# Altium integrated library Analog Devices Operational Amplifiers.IntLib: 2102 symbols (part 57 of 70)
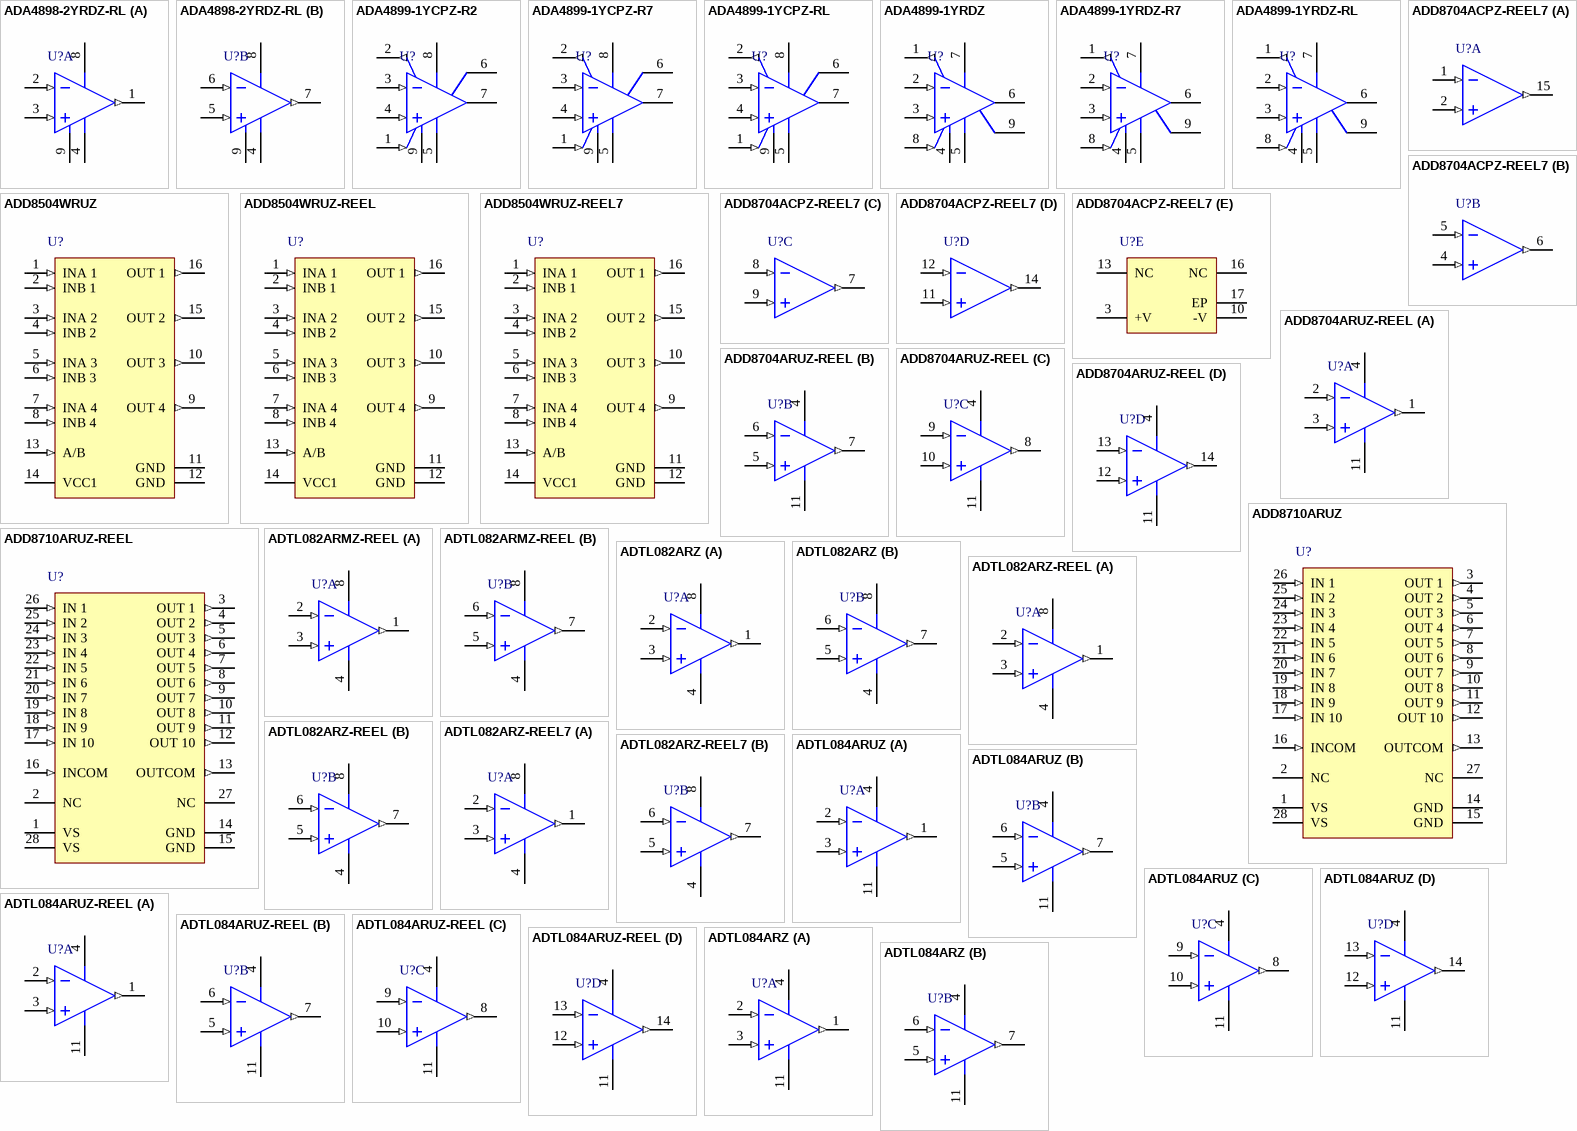
[diagram p170: symbols ADA4898-2YRDZ-RL to ADTL084ARZ]

## ADA4899-1YRDZ-R7
designator U?
Single Channel Ultra Low Noise Operational Amplifier, 600 MHz BW, 310 V/us SR, Industrial, 8-pin SOIC (RD-8-1), Reel; Generic Part Number: ADA4899-1; Manufacturer: Analog Devices; PartNumber: ADA4899-1YRDZ-R7; Amplifiers Per Package: 1; Input Bias Current: 100nA; Input Offset Voltage: 35uV; Iq/Amp: 16.2mA; Small Signal Bandwidth: 600MHz; V Span Max: 12V; V Span Min: 4.5V; DatasheetVersion: Rev. B; PackageVersion: 060506-A; PackageReference: RD-8-1; PackageDescription: 8-Pin Standard Small Outline Package, Body 4.9 x 3.9 mm, Pitch 1.27 mm; Supplier 1: Digi-Key; Supplier Part Number 1: ADA4899-1YRDZ-R7TR-ND; Supplier 2: Digi-Key; Supplier Part Number 2: ADA4899-1YRDZ-R7CT-ND; Supplier 3: Digi-Key; Supplier Part Number 3: ADA4899-1YRDZ-R7DKR-ND; Supplier 4: Newark; Supplier Part Number 4: 12M7624; Slew Rate: 310V/us; Mounting Technology: Surface Mount; Code_JEDEC: MS-012-AA; ComponentLink1Description: Manufacturer URL; ComponentLink1URL: http://www.analog.com/en/index.html; ComponentLink2Description: Datasheet; ComponentLink2URL: http://www.analog.com/static/imported-files/data_sheets/ADA4899-1.pdf; ComponentLink3Description: Package Specification; ComponentLink3URL: http://www.analog.com/static/imported-files/packages/PKG_PDF/SOIC_ED(RD)/RD_8_1.pdf; ComponentLink4Description: Reference Circuit; ComponentLink4URL: http://www.analog.com/en/all-operational-amplifiers-op-amps/operational-amplifiers-op-amps/ada4899-1/products/product.html#product-recommendations
footprint ADI-RD-8-1_N (SOIC, 8-Leads, Body 4.9x3.9mm, Pitch 1.27mm, Thermal Pad 2.29x2.29mm, IPC Medium Density)
footprint ADI-RD-8-1_L (SOIC, 8-Leads, Body 4.9x3.9mm, Pitch 1.27mm, Thermal Pad 2.29x2.29mm, IPC High Density)
footprint ADI-RD-8-1_M (SOIC, 8-Leads, Body 4.9x3.9mm, Pitch 1.27mm, Thermal Pad 2.29x2.29mm, IPC Low Density)
pins: 1 FEEDBACK (out), 2 -IN (in), 3 +IN (in), 4 -VS (power), 5 -VS (power), 6 VOUT (hiz), 7 +VS (power), 8 ~{DISABLE} (in), 9 EP

## ADA4899-1YRDZ-RL
designator U?
Single Channel Ultra Low Noise Operational Amplifier, 600 MHz BW, 310 V/us SR, Industrial, 8-pin SOIC (RD-8-1), Reel; Generic Part Number: ADA4899-1; Manufacturer: Analog Devices; PartNumber: ADA4899-1YRDZ-RL; Amplifiers Per Package: 1; Input Bias Current: 100nA; Input Offset Voltage: 35uV; Iq/Amp: 16.2mA; Small Signal Bandwidth: 600MHz; V Span Max: 12V; V Span Min: 4.5V; DatasheetVersion: Rev. B; PackageVersion: 060506-A; PackageReference: RD-8-1; PackageDescription: 8-Pin Standard Small Outline Package, Body 4.9 x 3.9 mm, Pitch 1.27 mm; Supplier 1: Digi-Key; Supplier Part Number 1: ADA4899-1YRDZ-RL-ND; Supplier 2: Newark; Supplier Part Number 2: 12M7623; Slew Rate: 310V/us; Mounting Technology: Surface Mount; Code_JEDEC: MS-012-AA; ComponentLink1Description: Manufacturer URL; ComponentLink1URL: http://www.analog.com/en/index.html; ComponentLink2Description: Datasheet; ComponentLink2URL: http://www.analog.com/static/imported-files/data_sheets/ADA4899-1.pdf; ComponentLink3Description: Package Specification; ComponentLink3URL: http://www.analog.com/static/imported-files/packages/PKG_PDF/SOIC_ED(RD)/RD_8_1.pdf; ComponentLink4Description: Reference Circuit; ComponentLink4URL: http://www.analog.com/en/all-operational-amplifiers-op-amps/operational-amplifiers-op-amps/ada4899-1/products/product.html#product-recommendations
footprint ADI-RD-8-1_N (SOIC, 8-Leads, Body 4.9x3.9mm, Pitch 1.27mm, Thermal Pad 2.29x2.29mm, IPC Medium Density)
footprint ADI-RD-8-1_L (SOIC, 8-Leads, Body 4.9x3.9mm, Pitch 1.27mm, Thermal Pad 2.29x2.29mm, IPC High Density)
footprint ADI-RD-8-1_M (SOIC, 8-Leads, Body 4.9x3.9mm, Pitch 1.27mm, Thermal Pad 2.29x2.29mm, IPC Low Density)
pins: 1 FEEDBACK (out), 2 -IN (in), 3 +IN (in), 4 -VS (power), 5 -VS (power), 6 VOUT (hiz), 7 +VS (power), 8 ~{DISABLE} (in), 9 EP

## ADD8504WRUZ
designator U?
Quad Channel Single-Supply Operation Operational Amplifier, 7 V/us SR, Automotive, 16-pin SOP (RU-16), Tube; Generic Part Number: ADD8504; Manufacturer: Analog Devices; PartNumber: ADD8504WRUZ; Amplifiers Per Package: 4; Input Bias Current: 2nA; Input Offset Voltage: 20mV; Iq/Amp: 950uA; Slew Rate: 7V/us; V Span Max: 6.5V; V Span Min: 3.3V; DatasheetVersion: Rev. D; PackageReference: RU-16; PackageDescription: 16-Pin Thin Shrink Small Outline Package, Body 5 x 4.4 mm, Pitch 0.65 mm; Supplier 1: Digi-Key; Supplier Part Number 1: ADD8504WRUZ-ND; Mounting Technology: Surface Mount; Code_JEDEC: MO-153AB; ComponentLink1Description: Manufacturer URL; ComponentLink1URL: http://www.analog.com/en/index.html; ComponentLink2Description: Datasheet; ComponentLink2URL: http://www.analog.com/static/imported-files/data_sheets/ADD8504_8505_8506.pdf; ComponentLink3Description: Package Specification; ComponentLink3URL: http://www.analog.com/static/imported-files/packages/36244347913743854010197452789RU16.pdf
footprint ADI-RU-16_N (SOP, 16-Leads, Body 5x4.4mm, Pitch 0.65mm, IPC Medium Density)
footprint ADI-RU-16_L (SOP, 16-Leads, Body 5x4.4mm, Pitch 0.65mm, IPC High Density)
footprint ADI-RU-16_M (SOP, 16-Leads, Body 5x4.4mm, Pitch 0.65mm, IPC Low Density)
pins: 1 INA 1 (in) "Channel 1 Buffer Input A.", 2 INB 1 (in) "Channel 1 Buffer Input B.", 3 INA 2 (in) "Channel 2 Buffer Input A.", 4 INB 2 (in) "Channel 2 Buffer Input B.", 5 INA 3 (in) "Channel 3 Buffer Input A.", 6 INB 3 (in) "Channel 3 Buffer Input B.", 7 INA 4 (in) "Channel 4 Buffer Input A.", 8 INB 4 (in) "Channel 4 Buffer Input B.", 9 OUT 4 (out) "Channel 4 Buffer Output.", 10 OUT 3 (out) "Channel 3 Buffer Output.", 11 GND (power) "Ground.", 12 GND (power) "Ground.", 13 A/B (in) "Switch Control. Logic High selects Input A; Logic Low selects Input B.", 14 VCC1 (power) "Power Supply Input. Short to VCC2 and VCC3. Typically connected to 5 V.", 15 OUT 2 (out) "Channel 2 Buffer Output.", 16 OUT 1 (out) "Channel 1 Buffer Output."

## ADD8504WRUZ-REEL
designator U?
Quad Channel Single-Supply Operation Operational Amplifier, 7 V/us SR, Automotive, 16-pin SOP (RU-16), Reel; Generic Part Number: ADD8504; Manufacturer: Analog Devices; PartNumber: ADD8504WRUZ-REEL; Amplifiers Per Package: 4; Input Bias Current: 2nA; Input Offset Voltage: 20mV; Iq/Amp: 950uA; Slew Rate: 7V/us; V Span Max: 6.5V; V Span Min: 3.3V; DatasheetVersion: Rev. D; PackageReference: RU-16; PackageDescription: 16-Pin Thin Shrink Small Outline Package, Body 5 x 4.4 mm, Pitch 0.65 mm; Supplier 1: Digi-Key; Supplier Part Number 1: ADD8504WRUZ-REEL-ND; Mounting Technology: Surface Mount; Code_JEDEC: MO-153AB; ComponentLink1Description: Manufacturer URL; ComponentLink1URL: http://www.analog.com/en/index.html; ComponentLink2Description: Datasheet; ComponentLink2URL: http://www.analog.com/static/imported-files/data_sheets/ADD8504_8505_8506.pdf; ComponentLink3Description: Package Specification; ComponentLink3URL: http://www.analog.com/static/imported-files/packages/36244347913743854010197452789RU16.pdf
footprint ADI-RU-16_N (SOP, 16-Leads, Body 5x4.4mm, Pitch 0.65mm, IPC Medium Density)
footprint ADI-RU-16_L (SOP, 16-Leads, Body 5x4.4mm, Pitch 0.65mm, IPC High Density)
footprint ADI-RU-16_M (SOP, 16-Leads, Body 5x4.4mm, Pitch 0.65mm, IPC Low Density)
pins: 1 INA 1 (in) "Channel 1 Buffer Input A.", 2 INB 1 (in) "Channel 1 Buffer Input B.", 3 INA 2 (in) "Channel 2 Buffer Input A.", 4 INB 2 (in) "Channel 2 Buffer Input B.", 5 INA 3 (in) "Channel 3 Buffer Input A.", 6 INB 3 (in) "Channel 3 Buffer Input B.", 7 INA 4 (in) "Channel 4 Buffer Input A.", 8 INB 4 (in) "Channel 4 Buffer Input B.", 9 OUT 4 (out) "Channel 4 Buffer Output.", 10 OUT 3 (out) "Channel 3 Buffer Output.", 11 GND (power) "Ground.", 12 GND (power) "Ground.", 13 A/B (in) "Switch Control. Logic High selects Input A; Logic Low selects Input B.", 14 VCC1 (power) "Power Supply Input. Short to VCC2 and VCC3. Typically connected to 5 V.", 15 OUT 2 (out) "Channel 2 Buffer Output.", 16 OUT 1 (out) "Channel 1 Buffer Output."

## ADD8504WRUZ-REEL7
designator U?
Quad Channel Single-Supply Operation Operational Amplifier, 7 V/us SR, Automotive, 16-pin SOP (RU-16), Reel; Generic Part Number: ADD8504; Manufacturer: Analog Devices; PartNumber: ADD8504WRUZ-REEL7; Amplifiers Per Package: 4; Input Bias Current: 2nA; Input Offset Voltage: 20mV; Iq/Amp: 950uA; Slew Rate: 7V/us; V Span Max: 6.5V; V Span Min: 3.3V; DatasheetVersion: Rev. D; PackageReference: RU-16; PackageDescription: 16-Pin Thin Shrink Small Outline Package, Body 5 x 4.4 mm, Pitch 0.65 mm; Supplier 1: Digi-Key; Supplier Part Number 1: ADD8504WRUZ-REEL7-ND; Mounting Technology: Surface Mount; Code_JEDEC: MO-153AB; ComponentLink1Description: Manufacturer URL; ComponentLink1URL: http://www.analog.com/en/index.html; ComponentLink2Description: Datasheet; ComponentLink2URL: http://www.analog.com/static/imported-files/data_sheets/ADD8504_8505_8506.pdf; ComponentLink3Description: Package Specification; ComponentLink3URL: http://www.analog.com/static/imported-files/packages/36244347913743854010197452789RU16.pdf
footprint ADI-RU-16_N (SOP, 16-Leads, Body 5x4.4mm, Pitch 0.65mm, IPC Medium Density)
footprint ADI-RU-16_L (SOP, 16-Leads, Body 5x4.4mm, Pitch 0.65mm, IPC High Density)
footprint ADI-RU-16_M (SOP, 16-Leads, Body 5x4.4mm, Pitch 0.65mm, IPC Low Density)
pins: 1 INA 1 (in) "Channel 1 Buffer Input A.", 2 INB 1 (in) "Channel 1 Buffer Input B.", 3 INA 2 (in) "Channel 2 Buffer Input A.", 4 INB 2 (in) "Channel 2 Buffer Input B.", 5 INA 3 (in) "Channel 3 Buffer Input A.", 6 INB 3 (in) "Channel 3 Buffer Input B.", 7 INA 4 (in) "Channel 4 Buffer Input A.", 8 INB 4 (in) "Channel 4 Buffer Input B.", 9 OUT 4 (out) "Channel 4 Buffer Output.", 10 OUT 3 (out) "Channel 3 Buffer Output.", 11 GND (power) "Ground.", 12 GND (power) "Ground.", 13 A/B (in) "Switch Control. Logic High selects Input A; Logic Low selects Input B.", 14 VCC1 (power) "Power Supply Input. Short to VCC2 and VCC3. Typically connected to 5 V.", 15 OUT 2 (out) "Channel 2 Buffer Output.", 16 OUT 1 (out) "Channel 1 Buffer Output."

## ADD8704ACPZ-REEL7
designator U?
Quad Channel Single-Supply Operation Operational Amplifier, 6.8 MHz BW, 6 V/us SR, Industrial, 16-pin QFN (CP-16-4), Reel; Generic Part Number: ADD8704; Manufacturer: Analog Devices; PartNumber: ADD8704ACPZ-REEL7; Amplifiers Per Package: 4; Input Bias Current: 200nA; Input Offset Voltage: 2mV; Iq/Amp: 850uA; Slew Rate: 6V/us; Small Signal Bandwidth: 6.8MHz; V Span Max: 16.5V; V Span Min: 4.5V; DatasheetVersion: Rev. 0; PackageVersion: 010606-0; PackageReference: CP-16-4; PackageDescription: 16-Pin Lead Frame Chip Scale Package, Body 4 x 4 mm, Pitch 0.65 mm; Supplier 1: Digi-Key; Supplier Part Number 1: ADD8704ACPZ-REEL7TR-ND; Supplier 2: Digi-Key; Supplier Part Number 2: ADD8704ACPZ-REEL7CT-ND; Supplier 3: Digi-Key; Supplier Part Number 3: ADD8704ACPZ-REEL7DKR-ND; Mounting Technology: Surface Mount; Code_JEDEC: MO-220-VGGC; ComponentLink1Description: Manufacturer URL; ComponentLink1URL: http://www.analog.com/en/index.html; ComponentLink2Description: Datasheet; ComponentLink2URL: http://www.analog.com/static/imported-files/data_sheets/ADD8704.pdf; ComponentLink3Description: Package Specification; ComponentLink3URL: http://www.analog.com/static/imported-files/packages/46009454504174339653421710019CP_16_4.pdf
footprint CP-16-4_N (QFN, 16-Leads, Body 4x4mm, Pitch 0.65mm, Thermal Pad 2.1x2.1mm, IPC Medium Density)
footprint CP-16-4_L (QFN, 16-Leads, Body 4x4mm, Pitch 0.65mm, Thermal Pad 2.1x2.1mm, IPC High Density)
footprint CP-16-4_M (QFN, 16-Leads, Body 4x4mm, Pitch 0.65mm, Thermal Pad 2.1x2.1mm, IPC Low Density)
part A pins: 1 -IN A (in), 2 +IN A (in), 15 OUT A (out)
part B pins: 4 +IN B (in), 5 -IN B (in), 6 OUT B (out)
part C pins: 7 OUT C (out), 8 -IN C (in), 9 +IN C (in)
part D pins: 11 +IN D (in), 12 -IN D (in), 14 OUT D (out)
part E pins: 3 +V (power), 10 -V (power), 13 NC, 16 NC, 17 EP (power)

## ADD8704ARUZ-REEL
designator U?
Quad Channel Single-Supply Operation Operational Amplifier, 6.8 MHz BW, 6 V/us SR, Industrial, 14-pin SOP (RU-14), Reel; Generic Part Number: ADD8704; Manufacturer: Analog Devices; PartNumber: ADD8704ARUZ-REEL; Amplifiers Per Package: 4; Input Bias Current: 200nA; Input Offset Voltage: 2mV; Iq/Amp: 850uA; Slew Rate: 6V/us; Small Signal Bandwidth: 6.8MHz; V Span Max: 16.5V; V Span Min: 4.5V; DatasheetVersion: Rev. 0; PackageReference: RU-14; PackageDescription: 14-Pin Thin Shrink Small Outline Package, Body 5 x 4.4 mm, Pitch 0.65 mm; Supplier 1: Digi-Key; Supplier Part Number 1: ADD8704ARUZ-REELTR-ND; Supplier 2: Digi-Key; Supplier Part Number 2: ADD8704ARUZ-REELCT-ND; Supplier 3: Digi-Key; Supplier Part Number 3: ADD8704ARUZ-REELDKR-ND; Supplier 4: Newark; Supplier Part Number 4: 59K0964; Mounting Technology: Surface Mount; Code_JEDEC: MO-153AB-1; ComponentLink1Description: Manufacturer URL; ComponentLink1URL: http://www.analog.com/en/index.html; ComponentLink2Description: Datasheet; ComponentLink2URL: http://www.analog.com/static/imported-files/data_sheets/ADD8704.pdf; ComponentLink3Description: Package Specification; ComponentLink3URL: http://www.analog.com/static/imported-files/packages/36057385283879153717235186773RU14.pdf
footprint ADI-RU-14_N (SOP, 14-Leads, Body 5x4.4mm, Pitch 0.65mm, IPC Medium Density)
footprint ADI-RU-14_L (SOP, 14-Leads, Body 5x4.4mm, Pitch 0.65mm, IPC High Density)
footprint ADI-RU-14_M (SOP, 14-Leads, Body 5x4.4mm, Pitch 0.65mm, IPC Low Density)
pins on every part: 4 +V (power), 11 -V (power)
part A pins: 1 OUT A (out), 2 -IN A (in), 3 +IN A (in)
part B pins: 5 +IN B (in), 6 -IN B (in), 7 OUT B (out)
part C pins: 8 OUT C (out), 9 -IN C (in), 10 +IN C (in)
part D pins: 12 +IN D (in), 13 -IN D (in), 14 OUT D (out)

## ADD8710ARUZ
designator U?
11 Channel Single-Supply Operation Operational Amplifier, 5 MHz BW, 8 V/us SR, Industrial, 28-pin SOP (RU-28), Tube; Generic Part Number: ADD8710; Manufacturer: Analog Devices; PartNumber: ADD8710ARUZ; Amplifiers Per Package: 11; Input Bias Current: 500nA; Input Offset Voltage: 4mV; Iq/Amp: 910uA; Slew Rate: 8V/us; Small Signal Bandwidth: 5MHz; V Span Max: 18V; V Span Min: 4.5V; DatasheetVersion: Rev. B; PackageReference: RU-28; PackageDescription: 28-Pin Thin Shrink Small Outline Package, Body 9.7 x 4.4 mm, Pitch 0.65 mm; Supplier 1: Digi-Key; Supplier Part Number 1: ADD8710ARUZ-ND; Mounting Technology: Surface Mount; Code_JEDEC: MO-153-AE; ComponentLink1Description: Manufacturer URL; ComponentLink1URL: http://www.analog.com/en/index.html; ComponentLink2Description: Datasheet; ComponentLink2URL: http://www.analog.com/static/imported-files/data_sheets/ADD8710.pdf; ComponentLink3Description: Package Specification; ComponentLink3URL: http://www.analog.com/static/imported-files/packages/249854663RU_28.pdf
footprint ADI-RU-28_N (SOP, 28-Leads, Body 9.7x4.4mm, Pitch 0.65mm, IPC Medium Density)
footprint ADI-RU-28_L (SOP, 28-Leads, Body 9.7x4.4mm, Pitch 0.65mm, IPC High Density)
footprint ADI-RU-28_M (SOP, 28-Leads, Body 9.7x4.4mm, Pitch 0.65mm, IPC Low Density)
pins: 1 VS (power), 2 NC, 3 OUT 1 (out), 4 OUT 2 (out), 5 OUT 3 (out), 6 OUT 4 (out), 7 OUT 5 (out), 8 OUT 6 (out), 9 OUT 7 (out), 10 OUT 8 (out), 11 OUT 9 (out), 12 OUT 10 (out), 13 OUTCOM (out), 14 GND (power), 15 GND (power), 16 INCOM (in), 17 IN 10 (in), 18 IN 9 (in), 19 IN 8 (in), 20 IN 7 (in), 21 IN 6 (in), 22 IN 5 (in), 23 IN 4 (in), 24 IN 3 (in), 25 IN 2 (in), 26 IN 1 (in), 27 NC, 28 VS (power)

## ADD8710ARUZ-REEL
designator U?
11 Channel Single-Supply Operation Operational Amplifier, 5 MHz BW, 8 V/us SR, Industrial, 28-pin SOP (RU-28), Reel; Generic Part Number: ADD8710; Manufacturer: Analog Devices; PartNumber: ADD8710ARUZ-REEL; Amplifiers Per Package: 11; Input Bias Current: 500nA; Input Offset Voltage: 4mV; Iq/Amp: 910uA; Slew Rate: 8V/us; Small Signal Bandwidth: 5MHz; V Span Max: 18V; V Span Min: 4.5V; DatasheetVersion: Rev. B; PackageReference: RU-28; PackageDescription: 28-Pin Thin Shrink Small Outline Package, Body 9.7 x 4.4 mm, Pitch 0.65 mm; Supplier 1: Digi-Key; Supplier Part Number 1: ADD8710ARUZ-REEL-ND; Mounting Technology: Surface Mount; Code_JEDEC: MO-153-AE; ComponentLink1Description: Manufacturer URL; ComponentLink1URL: http://www.analog.com/en/index.html; ComponentLink2Description: Datasheet; ComponentLink2URL: http://www.analog.com/static/imported-files/data_sheets/ADD8710.pdf; ComponentLink3Description: Package Specification; ComponentLink3URL: http://www.analog.com/static/imported-files/packages/249854663RU_28.pdf
footprint ADI-RU-28_N (SOP, 28-Leads, Body 9.7x4.4mm, Pitch 0.65mm, IPC Medium Density)
footprint ADI-RU-28_L (SOP, 28-Leads, Body 9.7x4.4mm, Pitch 0.65mm, IPC High Density)
footprint ADI-RU-28_M (SOP, 28-Leads, Body 9.7x4.4mm, Pitch 0.65mm, IPC Low Density)
pins: 1 VS (power), 2 NC, 3 OUT 1 (out), 4 OUT 2 (out), 5 OUT 3 (out), 6 OUT 4 (out), 7 OUT 5 (out), 8 OUT 6 (out), 9 OUT 7 (out), 10 OUT 8 (out), 11 OUT 9 (out), 12 OUT 10 (out), 13 OUTCOM (out), 14 GND (power), 15 GND (power), 16 INCOM (in), 17 IN 10 (in), 18 IN 9 (in), 19 IN 8 (in), 20 IN 7 (in), 21 IN 6 (in), 22 IN 5 (in), 23 IN 4 (in), 24 IN 3 (in), 25 IN 2 (in), 26 IN 1 (in), 27 NC, 28 VS (power)

## ADTL082ARMZ-REEL
designator U?
Double Channel Wide Bandwidth Operational Amplifier, 5 MHz BW, 20 V/us SR, Industrial, 8-pin SOP (RM-8), Reel; Generic Part Number: ADTL082; Manufacturer: Analog Devices; PartNumber: ADTL082ARMZ-REEL; Amplifiers Per Package: 2; Input Bias Current: 2pA; Input Offset Voltage: 1.5mV; Iq/Amp: 1.2mA; Slew Rate: 20V/us; Small Signal Bandwidth: 5MHz; V Span Max: 36V; V Span Min: 8V; DatasheetVersion: Rev. B; PackageReference: RM-8; PackageDescription: 8-Pin Mini Small Outline Package, Body 3 x 3 mm, Pitch 0.65 mm; Supplier 1: Digi-Key; Supplier Part Number 1: ADTL082ARMZ-REELTR-ND; Supplier 2: Digi-Key; Supplier Part Number 2: ADTL082ARMZ-REELCT-ND; Supplier 3: Digi-Key; Supplier Part Number 3: ADTL082ARMZ-REELDKR-ND; Supplier 4: Newark; Supplier Part Number 4: 30M0471; Mounting Technology: Surface Mount; Code_JEDEC: MO-187-AA; ComponentLink1Description: Manufacturer URL; ComponentLink1URL: http://www.analog.com/en/index.html; ComponentLink2Description: Datasheet; ComponentLink2URL: http://www.analog.com/static/imported-files/data_sheets/ADTL082_084.pdf; ComponentLink3Description: Package Specification; ComponentLink3URL: http://www.analog.com/static/imported-files/packages/PKG_PDF/MSOP%28RM%29/RM_8.pdf
footprint ADI-RM-8_N (SOP, 8-Leads, Body 3x3mm, Pitch 0.65mm, IPC Medium Density)
footprint ADI-RM-8_L (SOP, 8-Leads, Body 3x3mm, Pitch 0.65mm, IPC High Density)
footprint ADI-RM-8_M (SOP, 8-Leads, Body 3x3mm, Pitch 0.65mm, IPC Low Density)
pins on every part: 4 -V (power), 8 +V (power)
part A pins: 1 OUT A (out), 2 -IN A (in), 3 +IN A (in)
part B pins: 5 +IN B (in), 6 -IN B (in), 7 OUT B (out)

## ADTL082ARZ
designator U?
Double Channel Wide Bandwidth Operational Amplifier, 5 MHz BW, 20 V/us SR, Industrial, 8-pin SOIC (R-8), Tube; Generic Part Number: ADTL082; Manufacturer: Analog Devices; PartNumber: ADTL082ARZ; Amplifiers Per Package: 2; Input Bias Current: 2pA; Input Offset Voltage: 1.5mV; Iq/Amp: 1.2mA; Slew Rate: 20V/us; Small Signal Bandwidth: 5MHz; V Span Max: 36V; V Span Min: 8V; DatasheetVersion: Rev. B; PackageVersion: 060506-A; PackageReference: R-8; PackageDescription: 8-Pin Standard Small Outline Package, Body 3.9 x 4.9 mm, Pitch 1.27 mm; Supplier 1: Digi-Key; Supplier Part Number 1: ADTL082ARZ-ND; Supplier 2: Newark; Supplier Part Number 2: 30M0473; Mounting Technology: Surface Mount; Code_JEDEC: MS-012-AA; ComponentLink1Description: Manufacturer URL; ComponentLink1URL: http://www.analog.com/en/index.html; ComponentLink2Description: Datasheet; ComponentLink2URL: http://www.analog.com/static/imported-files/data_sheets/ADTL082_084.pdf; ComponentLink3Description: Package Specification; ComponentLink3URL: http://www.analog.com/static/imported-files/packages/PKG_PDF/SOIC_Narrow%20(R)/R_8.pdf
footprint ADI-R-8_N (SOIC, 8-Leads, Body 4.9x3.9mm, Pitch 1.27mm, IPC Medium Density)
footprint ADI-R-8_L (SOIC, 8-Leads, Body 4.9x3.9mm, Pitch 1.27mm, IPC High Density)
footprint ADI-R-8_M (SOIC, 8-Leads, Body 4.9x3.9mm, Pitch 1.27mm, IPC Low Density)
pins on every part: 4 -V (power), 8 +V (power)
part A pins: 1 OUT A (out), 2 -IN A (in), 3 +IN A (in)
part B pins: 5 +IN B (in), 6 -IN B (in), 7 OUT B (out)

## ADTL082ARZ-REEL
designator U?
Double Channel Wide Bandwidth Operational Amplifier, 5 MHz BW, 20 V/us SR, Industrial, 8-pin SOIC (R-8), Reel; Generic Part Number: ADTL082; Manufacturer: Analog Devices; PartNumber: ADTL082ARZ-REEL; Amplifiers Per Package: 2; Input Bias Current: 2pA; Input Offset Voltage: 1.5mV; Iq/Amp: 1.2mA; Slew Rate: 20V/us; Small Signal Bandwidth: 5MHz; V Span Max: 36V; V Span Min: 8V; DatasheetVersion: Rev. B; PackageVersion: 060506-A; PackageReference: R-8; PackageDescription: 8-Pin Standard Small Outline Package, Body 3.9 x 4.9 mm, Pitch 1.27 mm; Supplier 1: Digi-Key; Supplier Part Number 1: ADTL082ARZ-REELTR-ND; Supplier 2: Digi-Key; Supplier Part Number 2: ADTL082ARZ-REELCT-ND; Supplier 3: Digi-Key; Supplier Part Number 3: ADTL082ARZ-REELDKR-ND; Mounting Technology: Surface Mount; Code_JEDEC: MS-012-AA; ComponentLink1Description: Manufacturer URL; ComponentLink1URL: http://www.analog.com/en/index.html; ComponentLink2Description: Datasheet; ComponentLink2URL: http://www.analog.com/static/imported-files/data_sheets/ADTL082_084.pdf; ComponentLink3Description: Package Specification; ComponentLink3URL: http://www.analog.com/static/imported-files/packages/PKG_PDF/SOIC_Narrow%20(R)/R_8.pdf
footprint ADI-R-8_N (SOIC, 8-Leads, Body 4.9x3.9mm, Pitch 1.27mm, IPC Medium Density)
footprint ADI-R-8_L (SOIC, 8-Leads, Body 4.9x3.9mm, Pitch 1.27mm, IPC High Density)
footprint ADI-R-8_M (SOIC, 8-Leads, Body 4.9x3.9mm, Pitch 1.27mm, IPC Low Density)
pins on every part: 4 -V (power), 8 +V (power)
part A pins: 1 OUT A (out), 2 -IN A (in), 3 +IN A (in)
part B pins: 5 +IN B (in), 6 -IN B (in), 7 OUT B (out)

## ADTL082ARZ-REEL7
designator U?
Double Channel Wide Bandwidth Operational Amplifier, 5 MHz BW, 20 V/us SR, Industrial, 8-pin SOIC (R-8), Reel; Generic Part Number: ADTL082; Manufacturer: Analog Devices; PartNumber: ADTL082ARZ-REEL7; Amplifiers Per Package: 2; Input Bias Current: 2pA; Input Offset Voltage: 1.5mV; Iq/Amp: 1.2mA; Slew Rate: 20V/us; Small Signal Bandwidth: 5MHz; V Span Max: 36V; V Span Min: 8V; DatasheetVersion: Rev. B; PackageVersion: 060506-A; PackageReference: R-8; PackageDescription: 8-Pin Standard Small Outline Package, Body 3.9 x 4.9 mm, Pitch 1.27 mm; Supplier 1: Digi-Key; Supplier Part Number 1: ADTL082ARZ-REEL7TR-ND; Supplier 2: Digi-Key; Supplier Part Number 2: ADTL082ARZ-REEL7CT-ND; Supplier 3: Digi-Key; Supplier Part Number 3: ADTL082ARZ-REEL7DKR-ND; Mounting Technology: Surface Mount; Code_JEDEC: MS-012-AA; ComponentLink1Description: Manufacturer URL; ComponentLink1URL: http://www.analog.com/en/index.html; ComponentLink2Description: Datasheet; ComponentLink2URL: http://www.analog.com/static/imported-files/data_sheets/ADTL082_084.pdf; ComponentLink3Description: Package Specification; ComponentLink3URL: http://www.analog.com/static/imported-files/packages/PKG_PDF/SOIC_Narrow%20(R)/R_8.pdf
footprint ADI-R-8_N (SOIC, 8-Leads, Body 4.9x3.9mm, Pitch 1.27mm, IPC Medium Density)
footprint ADI-R-8_L (SOIC, 8-Leads, Body 4.9x3.9mm, Pitch 1.27mm, IPC High Density)
footprint ADI-R-8_M (SOIC, 8-Leads, Body 4.9x3.9mm, Pitch 1.27mm, IPC Low Density)
pins on every part: 4 -V (power), 8 +V (power)
part A pins: 1 OUT A (out), 2 -IN A (in), 3 +IN A (in)
part B pins: 5 +IN B (in), 6 -IN B (in), 7 OUT B (out)

## ADTL084ARUZ
designator U?
Quad Channel Wide Bandwidth Operational Amplifier, 5 MHz BW, 20 V/us SR, Industrial, 14-pin SOP (RU-14), Tube; Generic Part Number: ADTL084; Manufacturer: Analog Devices; PartNumber: ADTL084ARUZ; Amplifiers Per Package: 4; Input Bias Current: 2pA; Input Offset Voltage: 1.5mV; Iq/Amp: 1.2mA; Slew Rate: 20V/us; Small Signal Bandwidth: 5MHz; V Span Max: 36V; V Span Min: 8V; DatasheetVersion: Rev. B; PackageReference: RU-14; PackageDescription: 14-Pin Thin Shrink Small Outline Package, Body 5 x 4.4 mm, Pitch 0.65 mm; Supplier 1: Digi-Key; Supplier Part Number 1: ADTL084ARUZ-ND; Supplier 2: Newark; Supplier Part Number 2: 30M0482; Mounting Technology: Surface Mount; Code_JEDEC: MO-153AB-1; ComponentLink1Description: Manufacturer URL; ComponentLink1URL: http://www.analog.com/en/index.html; ComponentLink2Description: Datasheet; ComponentLink2URL: http://www.analog.com/static/imported-files/data_sheets/ADTL082_084.pdf; ComponentLink3Description: Package Specification; ComponentLink3URL: http://www.analog.com/static/imported-files/packages/36057385283879153717235186773RU14.pdf
footprint ADI-RU-14_N (SOP, 14-Leads, Body 5x4.4mm, Pitch 0.65mm, IPC Medium Density)
footprint ADI-RU-14_L (SOP, 14-Leads, Body 5x4.4mm, Pitch 0.65mm, IPC High Density)
footprint ADI-RU-14_M (SOP, 14-Leads, Body 5x4.4mm, Pitch 0.65mm, IPC Low Density)
pins on every part: 4 +V (power), 11 -V (power)
part A pins: 1 OUT A (out), 2 -IN A (in), 3 +IN A (in)
part B pins: 5 +IN B (in), 6 -IN B (in), 7 OUT B (out)
part C pins: 8 OUT C (out), 9 -IN C (in), 10 +IN C (in)
part D pins: 12 +IN D (in), 13 -IN D (in), 14 OUT D (out)

## ADTL084ARUZ-REEL
designator U?
Quad Channel Wide Bandwidth Operational Amplifier, 5 MHz BW, 20 V/us SR, Industrial, 14-pin SOP (RU-14), Reel; Generic Part Number: ADTL084; Manufacturer: Analog Devices; PartNumber: ADTL084ARUZ-REEL; Amplifiers Per Package: 4; Input Bias Current: 2pA; Input Offset Voltage: 1.5mV; Iq/Amp: 1.2mA; Slew Rate: 20V/us; Small Signal Bandwidth: 5MHz; V Span Max: 36V; V Span Min: 8V; DatasheetVersion: Rev. B; PackageReference: RU-14; PackageDescription: 14-Pin Thin Shrink Small Outline Package, Body 5 x 4.4 mm, Pitch 0.65 mm; Supplier 1: Digi-Key; Supplier Part Number 1: ADTL084ARUZ-REELTR-ND; Supplier 2: Digi-Key; Supplier Part Number 2: ADTL084ARUZ-REELCT-ND; Supplier 3: Digi-Key; Supplier Part Number 3: ADTL084ARUZ-REELDKR-ND; Supplier 4: Newark; Supplier Part Number 4: 30M0483; Mounting Technology: Surface Mount; Code_JEDEC: MO-153AB-1; ComponentLink1Description: Manufacturer URL; ComponentLink1URL: http://www.analog.com/en/index.html; ComponentLink2Description: Datasheet; ComponentLink2URL: http://www.analog.com/static/imported-files/data_sheets/ADTL082_084.pdf; ComponentLink3Description: Package Specification; ComponentLink3URL: http://www.analog.com/static/imported-files/packages/36057385283879153717235186773RU14.pdf
footprint ADI-RU-14_N (SOP, 14-Leads, Body 5x4.4mm, Pitch 0.65mm, IPC Medium Density)
footprint ADI-RU-14_L (SOP, 14-Leads, Body 5x4.4mm, Pitch 0.65mm, IPC High Density)
footprint ADI-RU-14_M (SOP, 14-Leads, Body 5x4.4mm, Pitch 0.65mm, IPC Low Density)
pins on every part: 4 +V (power), 11 -V (power)
part A pins: 1 OUT A (out), 2 -IN A (in), 3 +IN A (in)
part B pins: 5 +IN B (in), 6 -IN B (in), 7 OUT B (out)
part C pins: 8 OUT C (out), 9 -IN C (in), 10 +IN C (in)
part D pins: 12 +IN D (in), 13 -IN D (in), 14 OUT D (out)

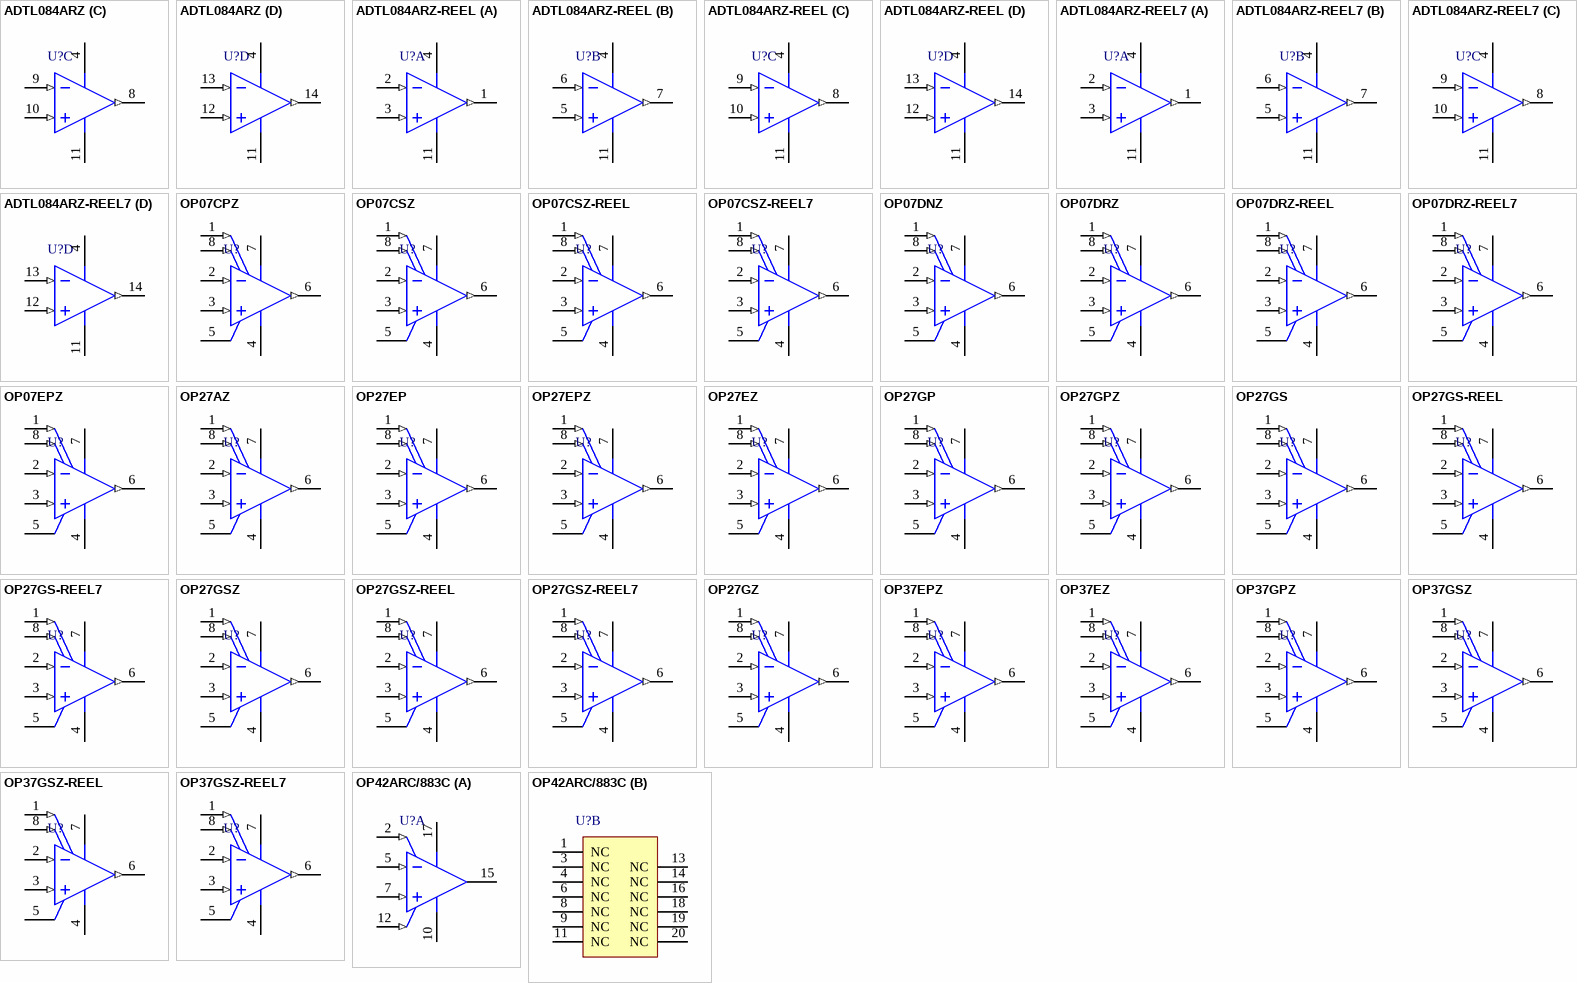
[diagram p90: symbols ADTL084ARZ to OP42ARC/883C]

## ADTL084ARZ
designator U?
Quad Channel Wide Bandwidth Operational Amplifier, 5 MHz BW, 20 V/us SR, Industrial, 14-pin SOIC (R-14), Tube; Generic Part Number: ADTL084; Manufacturer: Analog Devices; PartNumber: ADTL084ARZ; Amplifiers Per Package: 4; Input Bias Current: 2pA; Input Offset Voltage: 1.5mV; Iq/Amp: 1.2mA; Slew Rate: 20V/us; Small Signal Bandwidth: 5MHz; V Span Max: 36V; V Span Min: 8V; DatasheetVersion: Rev. B; PackageVersion: 060606-A; PackageReference: R-14; PackageDescription: 14-Pin Standard Small Outline Package, Body 8.65 x 3.9 mm, Pitch 1.27 mm; Supplier 1: Digi-Key; Supplier Part Number 1: ADTL084ARZ-ND; Supplier 2: Farnell; Supplier Part Number 2: 1331021; Supplier 3: Newark; Supplier Part Number 3: 30M0484; Mounting Technology: Surface Mount; Code_JEDEC: MS-012-AB; ComponentLink1Description: Manufacturer URL; ComponentLink1URL: http://www.analog.com/en/index.html; ComponentLink2Description: Datasheet; ComponentLink2URL: http://www.analog.com/static/imported-files/data_sheets/ADTL082_084.pdf; ComponentLink3Description: Package Specification; ComponentLink3URL: http://www.analog.com/static/imported-files/packages/PKG_PDF/SOIC_Narrow%20(R)/R_14.pdf
footprint ADI-R-14_N (SOIC, 14-Leads, Body 8.65x3.9mm, Pitch 1.27mm, IPC Medium Density)
footprint ADI-R-14_L (SOIC, 14-Leads, Body 8.65x3.9mm, Pitch 1.27mm, IPC High Density)
footprint ADI-R-14_M (SOIC, 14-Leads, Body 8.65x3.9mm, Pitch 1.27mm, IPC Low Density)
pins on every part: 4 +V (power), 11 -V (power)
part A pins: 1 OUT A (out), 2 -IN A (in), 3 +IN A (in)
part B pins: 5 +IN B (in), 6 -IN B (in), 7 OUT B (out)
part C pins: 8 OUT C (out), 9 -IN C (in), 10 +IN C (in)
part D pins: 12 +IN D (in), 13 -IN D (in), 14 OUT D (out)

## ADTL084ARZ-REEL
designator U?
Quad Channel Wide Bandwidth Operational Amplifier, 5 MHz BW, 20 V/us SR, Industrial, 14-pin SOIC (R-14), Reel; Generic Part Number: ADTL084; Manufacturer: Analog Devices; PartNumber: ADTL084ARZ-REEL; Amplifiers Per Package: 4; Input Bias Current: 2pA; Input Offset Voltage: 1.5mV; Iq/Amp: 1.2mA; Slew Rate: 20V/us; Small Signal Bandwidth: 5MHz; V Span Max: 36V; V Span Min: 8V; DatasheetVersion: Rev. B; PackageVersion: 060606-A; PackageReference: R-14; PackageDescription: 14-Pin Standard Small Outline Package, Body 8.65 x 3.9 mm, Pitch 1.27 mm; Supplier 1: Digi-Key; Supplier Part Number 1: ADTL084ARZ-REEL-ND; Mounting Technology: Surface Mount; Code_JEDEC: MS-012-AB; ComponentLink1Description: Manufacturer URL; ComponentLink1URL: http://www.analog.com/en/index.html; ComponentLink2Description: Datasheet; ComponentLink2URL: http://www.analog.com/static/imported-files/data_sheets/ADTL082_084.pdf; ComponentLink3Description: Package Specification; ComponentLink3URL: http://www.analog.com/static/imported-files/packages/PKG_PDF/SOIC_Narrow%20(R)/R_14.pdf
footprint ADI-R-14_N (SOIC, 14-Leads, Body 8.65x3.9mm, Pitch 1.27mm, IPC Medium Density)
footprint ADI-R-14_L (SOIC, 14-Leads, Body 8.65x3.9mm, Pitch 1.27mm, IPC High Density)
footprint ADI-R-14_M (SOIC, 14-Leads, Body 8.65x3.9mm, Pitch 1.27mm, IPC Low Density)
pins on every part: 4 +V (power), 11 -V (power)
part A pins: 1 OUT A (out), 2 -IN A (in), 3 +IN A (in)
part B pins: 5 +IN B (in), 6 -IN B (in), 7 OUT B (out)
part C pins: 8 OUT C (out), 9 -IN C (in), 10 +IN C (in)
part D pins: 12 +IN D (in), 13 -IN D (in), 14 OUT D (out)

## ADTL084ARZ-REEL7
designator U?
Quad Channel Wide Bandwidth Operational Amplifier, 5 MHz BW, 20 V/us SR, Industrial, 14-pin SOIC (R-14), Reel; Generic Part Number: ADTL084; Manufacturer: Analog Devices; PartNumber: ADTL084ARZ-REEL7; Amplifiers Per Package: 4; Input Bias Current: 2pA; Input Offset Voltage: 1.5mV; Iq/Amp: 1.2mA; Slew Rate: 20V/us; Small Signal Bandwidth: 5MHz; V Span Max: 36V; V Span Min: 8V; DatasheetVersion: Rev. B; PackageVersion: 060606-A; PackageReference: R-14; PackageDescription: 14-Pin Standard Small Outline Package, Body 8.65 x 3.9 mm, Pitch 1.27 mm; Supplier 1: Digi-Key; Supplier Part Number 1: ADTL084ARZ-REEL7TR-ND; Supplier 2: Digi-Key; Supplier Part Number 2: ADTL084ARZ-REEL7CT-ND; Supplier 3: Digi-Key; Supplier Part Number 3: ADTL084ARZ-REEL7DKR-ND; Mounting Technology: Surface Mount; Code_JEDEC: MS-012-AB; ComponentLink1Description: Manufacturer URL; ComponentLink1URL: http://www.analog.com/en/index.html; ComponentLink2Description: Datasheet; ComponentLink2URL: http://www.analog.com/static/imported-files/data_sheets/ADTL082_084.pdf; ComponentLink3Description: Package Specification; ComponentLink3URL: http://www.analog.com/static/imported-files/packages/PKG_PDF/SOIC_Narrow%20(R)/R_14.pdf
footprint ADI-R-14_N (SOIC, 14-Leads, Body 8.65x3.9mm, Pitch 1.27mm, IPC Medium Density)
footprint ADI-R-14_L (SOIC, 14-Leads, Body 8.65x3.9mm, Pitch 1.27mm, IPC High Density)
footprint ADI-R-14_M (SOIC, 14-Leads, Body 8.65x3.9mm, Pitch 1.27mm, IPC Low Density)
pins on every part: 4 +V (power), 11 -V (power)
part A pins: 1 OUT A (out), 2 -IN A (in), 3 +IN A (in)
part B pins: 5 +IN B (in), 6 -IN B (in), 7 OUT B (out)
part C pins: 8 OUT C (out), 9 -IN C (in), 10 +IN C (in)
part D pins: 12 +IN D (in), 13 -IN D (in), 14 OUT D (out)

## OP07CPZ
designator U?
Single Channel Low Noise Operational Amplifier, 600 KHz BW, 300 mV/us SR, Industrial, 8-pin DIP (N-8), Tube; Generic Part Number: OP07; Manufacturer: Analog Devices; PartNumber: OP07CPZ; # OpAmps per Pkg: 1; Small Signal Bandwidth: 600KHz; V Span Max: 44V; V Span Min: 6V; DatasheetVersion: Rev. G; PackageVersion: 070606-A; PackageReference: N-8; PackageDescription: 8-Pin Plastic Dual In-Line Package, Row spacing 7.62 mm, Pitch 2.54 mm; Supplier 1: Digi-Key; Supplier Part Number 1: OP07CPZ-ND; Supplier 2: Farnell; Supplier Part Number 2: 1523886; Supplier 3: Farnell; Supplier Part Number 3: 9604600; Supplier 4: Newark; Supplier Part Number 4: 59K8752; Packing: Tube; Slew Rate: 300mV/us; Mounting Technology: Through Hole; Code_JEDEC: MS-001; ComponentLink1Description: Manufacturer URL; ComponentLink1URL: http://www.analog.com/en/index.html; ComponentLink2Description: Datasheet; ComponentLink2URL: http://www.analog.com/static/imported-files/data_sheets/OP07.pdf; ComponentLink3Description: Package Specification; ComponentLink3URL: http:/www.analog.com/static/imported-files/packages/PKG_PDF/PDIP(N)/N_8.pdf
footprint ADI-N-8 (DIP, 8-Leads, Body 9.59x6.6mm, Pitch 2.54mm)
pins: 1 VOS TRIM (in), 2 -IN (in), 3 +IN (in), 4 -V (power), 5 NC, 6 OUT (out), 7 +V (power), 8 VOS TRIM (in)

## OP07CSZ
designator U?
Single Channel Low Noise Operational Amplifier, 600 KHz BW, 300 mV/us SR, Industrial, 8-pin SOIC (R-8), Tube; Generic Part Number: OP07; Manufacturer: Analog Devices; PartNumber: OP07CSZ; # OpAmps per Pkg: 1; Small Signal Bandwidth: 600KHz; V Span Max: 44V; V Span Min: 6V; DatasheetVersion: Rev. G; PackageVersion: 060506-A; PackageReference: R-8; PackageDescription: 8-Pin Standard Small Outline Package, Body 3.9 x 4.9 mm, Pitch 1.27 mm; Supplier 1: Digi-Key; Supplier Part Number 1: OP07CSZ-ND; Supplier 2: Newark; Supplier Part Number 2: 59K8753; Packing: Tube; Slew Rate: 300mV/us; Mounting Technology: Surface Mount; Code_JEDEC: MS-012-AA; ComponentLink1Description: Manufacturer URL; ComponentLink1URL: http://www.analog.com/en/index.html; ComponentLink2Description: Datasheet; ComponentLink2URL: http://www.analog.com/static/imported-files/data_sheets/OP07.pdf; ComponentLink3Description: Package Specification; ComponentLink3URL: http://www.analog.com/static/imported-files/packages/PKG_PDF/SOIC_Narrow%20(R)/R_8.pdf
footprint ADI-R-8_N (SOIC, 8-Leads, Body 4.9x3.9mm, Pitch 1.27mm, IPC Medium Density)
footprint ADI-R-8_L (SOIC, 8-Leads, Body 4.9x3.9mm, Pitch 1.27mm, IPC High Density)
footprint ADI-R-8_M (SOIC, 8-Leads, Body 4.9x3.9mm, Pitch 1.27mm, IPC Low Density)
pins: 1 VOS TRIM (in), 2 -IN (in), 3 +IN (in), 4 -V (power), 5 NC, 6 OUT (out), 7 +V (power), 8 VOS TRIM (in)

## OP07CSZ-REEL
designator U?
Single Channel Low Noise Operational Amplifier, 600 KHz BW, 300 mV/us SR, Industrial, 8-pin SOIC (R-8), Reel; Generic Part Number: OP07; Manufacturer: Analog Devices; PartNumber: OP07CSZ-REEL; # OpAmps per Pkg: 1; Small Signal Bandwidth: 600KHz; V Span Max: 44V; V Span Min: 6V; DatasheetVersion: Rev. G; PackageVersion: 060506-A; PackageReference: R-8; PackageDescription: 8-Pin Standard Small Outline Package, Body 3.9 x 4.9 mm, Pitch 1.27 mm; Supplier 1: Digi-Key; Supplier Part Number 1: OP07CSZ-REEL-ND; Supplier 2: Newark; Supplier Part Number 2: 59K8754; Packing: Reel; Slew Rate: 300mV/us; Mounting Technology: Surface Mount; Code_JEDEC: MS-012-AA; ComponentLink1Description: Manufacturer URL; ComponentLink1URL: http://www.analog.com/en/index.html; ComponentLink2Description: Datasheet; ComponentLink2URL: http://www.analog.com/static/imported-files/data_sheets/OP07.pdf; ComponentLink3Description: Package Specification; ComponentLink3URL: http://www.analog.com/static/imported-files/packages/PKG_PDF/SOIC_Narrow%20(R)/R_8.pdf
footprint ADI-R-8_N (SOIC, 8-Leads, Body 4.9x3.9mm, Pitch 1.27mm, IPC Medium Density)
footprint ADI-R-8_L (SOIC, 8-Leads, Body 4.9x3.9mm, Pitch 1.27mm, IPC High Density)
footprint ADI-R-8_M (SOIC, 8-Leads, Body 4.9x3.9mm, Pitch 1.27mm, IPC Low Density)
pins: 1 VOS TRIM (in), 2 -IN (in), 3 +IN (in), 4 -V (power), 5 NC, 6 OUT (out), 7 +V (power), 8 VOS TRIM (in)

## OP07CSZ-REEL7
designator U?
Single Channel Low Noise Operational Amplifier, 600 KHz BW, 300 mV/us SR, Industrial, 8-pin SOIC (R-8), Reel; Generic Part Number: OP07; Manufacturer: Analog Devices; PartNumber: OP07CSZ-REEL7; # OpAmps per Pkg: 1; Small Signal Bandwidth: 600KHz; V Span Max: 44V; V Span Min: 6V; DatasheetVersion: Rev. G; PackageVersion: 060506-A; PackageReference: R-8; PackageDescription: 8-Pin Standard Small Outline Package, Body 3.9 x 4.9 mm, Pitch 1.27 mm; Supplier 1: Digi-Key; Supplier Part Number 1: OP07CSZ-REEL7TR-ND; Supplier 2: Digi-Key; Supplier Part Number 2: OP07CSZ-REEL7CT-ND; Supplier 3: Digi-Key; Supplier Part Number 3: OP07CSZ-REEL7DKR-ND; Supplier 4: Newark; Supplier Part Number 4: 59K8755; Packing: Reel; Slew Rate: 300mV/us; Mounting Technology: Surface Mount; Code_JEDEC: MS-012-AA; ComponentLink1Description: Manufacturer URL; ComponentLink1URL: http://www.analog.com/en/index.html; ComponentLink2Description: Datasheet; ComponentLink2URL: http://www.analog.com/static/imported-files/data_sheets/OP07.pdf; ComponentLink3Description: Package Specification; ComponentLink3URL: http://www.analog.com/static/imported-files/packages/PKG_PDF/SOIC_Narrow%20(R)/R_8.pdf
footprint ADI-R-8_N (SOIC, 8-Leads, Body 4.9x3.9mm, Pitch 1.27mm, IPC Medium Density)
footprint ADI-R-8_L (SOIC, 8-Leads, Body 4.9x3.9mm, Pitch 1.27mm, IPC High Density)
footprint ADI-R-8_M (SOIC, 8-Leads, Body 4.9x3.9mm, Pitch 1.27mm, IPC Low Density)
pins: 1 VOS TRIM (in), 2 -IN (in), 3 +IN (in), 4 -V (power), 5 NC, 6 OUT (out), 7 +V (power), 8 VOS TRIM (in)

## OP07DNZ
designator U?
Single Channel Low Cost Operational Amplifier, 600 KHz BW, 200 mV/us SR, Industrial, 8-pin DIP (N-8), Tube; Generic Part Number: OP07D; Manufacturer: Analog Devices; PartNumber: OP07DNZ; Amplifiers Per Package: 1; Input Bias Current: 200pA; Input Offset Voltage: 45uV; Iq/Amp: 1.3mA; Small Signal Bandwidth: 600KHz; V Span Max: 36V; V Span Min: 8V; DatasheetVersion: Rev. A; PackageVersion: 070606-A; PackageReference: N-8; PackageDescription: 8-Pin Plastic Dual In-Line Package, Row spacing 7.62 mm, Pitch 2.54 mm; Supplier 1: Digi-Key; Supplier Part Number 1: OP07DNZ-ND; Supplier 2: Farnell; Supplier Part Number 2: 1274124; Supplier 3: Newark; Supplier Part Number 3: 19M1023; Slew Rate: 200mV/us; Mounting Technology: Through Hole; Code_JEDEC: MS-001; ComponentLink1Description: Manufacturer URL; ComponentLink1URL: http://www.analog.com/en/index.html; ComponentLink2Description: Datasheet; ComponentLink2URL: http://www.analog.com/static/imported-files/data_sheets/OP07D.pdf; ComponentLink3Description: Package Specification; ComponentLink3URL: http:/www.analog.com/static/imported-files/packages/PKG_PDF/PDIP(N)/N_8.pdf; ComponentLink4Description: Reference Circuit; ComponentLink4URL: http://www.analog.com/en/all-operational-amplifiers-op-amps/operational-amplifiers-op-amps/op07d/products/product.html#product-recommendations
footprint ADI-N-8 (DIP, 8-Leads, Body 9.59x6.6mm, Pitch 2.54mm)
pins: 1 NULL (in), 2 -IN (in), 3 +IN (in), 4 -V (power), 5 NC, 6 OUT (out), 7 +V (power), 8 NULL (in)

## OP07DRZ
designator U?
Single Channel Low Cost Operational Amplifier, 600 KHz BW, 200 mV/us SR, Industrial, 8-pin SOIC (R-8), Tube; Generic Part Number: OP07D; Manufacturer: Analog Devices; PartNumber: OP07DRZ; Amplifiers Per Package: 1; Input Bias Current: 200pA; Input Offset Voltage: 45uV; Iq/Amp: 1.3mA; Small Signal Bandwidth: 600KHz; V Span Max: 36V; V Span Min: 8V; DatasheetVersion: Rev. A; PackageVersion: 060506-A; PackageReference: R-8; PackageDescription: 8-Pin Standard Small Outline Package, Body 3.9 x 4.9 mm, Pitch 1.27 mm; Supplier 1: Digi-Key; Supplier Part Number 1: OP07DRZ-ND; Supplier 2: Farnell; Supplier Part Number 2: 1274123; Supplier 3: Newark; Supplier Part Number 3: 19M1024; Slew Rate: 200mV/us; Mounting Technology: Surface Mount; Code_JEDEC: MS-012-AA; ComponentLink1Description: Manufacturer URL; ComponentLink1URL: http://www.analog.com/en/index.html; ComponentLink2Description: Datasheet; ComponentLink2URL: http://www.analog.com/static/imported-files/data_sheets/OP07D.pdf; ComponentLink3Description: Package Specification; ComponentLink3URL: http://www.analog.com/static/imported-files/packages/PKG_PDF/SOIC_Narrow%20(R)/R_8.pdf; ComponentLink4Description: Reference Circuit; ComponentLink4URL: http://www.analog.com/en/all-operational-amplifiers-op-amps/operational-amplifiers-op-amps/op07d/products/product.html#product-recommendations
footprint ADI-R-8_N (SOIC, 8-Leads, Body 4.9x3.9mm, Pitch 1.27mm, IPC Medium Density)
footprint ADI-R-8_L (SOIC, 8-Leads, Body 4.9x3.9mm, Pitch 1.27mm, IPC High Density)
footprint ADI-R-8_M (SOIC, 8-Leads, Body 4.9x3.9mm, Pitch 1.27mm, IPC Low Density)
pins: 1 NULL (in), 2 -IN (in), 3 +IN (in), 4 -V (power), 5 NC, 6 OUT (out), 7 +V (power), 8 NULL (in)

## OP07DRZ-REEL
designator U?
Single Channel Low Cost Operational Amplifier, 600 KHz BW, 200 mV/us SR, Industrial, 8-pin SOIC (R-8), Reel; Generic Part Number: OP07D; Manufacturer: Analog Devices; PartNumber: OP07DRZ-REEL; Amplifiers Per Package: 1; Input Bias Current: 200pA; Input Offset Voltage: 45uV; Iq/Amp: 1.3mA; Small Signal Bandwidth: 600KHz; V Span Max: 36V; V Span Min: 8V; DatasheetVersion: Rev. A; PackageVersion: 060506-A; PackageReference: R-8; PackageDescription: 8-Pin Standard Small Outline Package, Body 3.9 x 4.9 mm, Pitch 1.27 mm; Supplier 1: Digi-Key; Supplier Part Number 1: OP07DRZ-REEL-ND; Slew Rate: 200mV/us; Mounting Technology: Surface Mount; Code_JEDEC: MS-012-AA; ComponentLink1Description: Manufacturer URL; ComponentLink1URL: http://www.analog.com/en/index.html; ComponentLink2Description: Datasheet; ComponentLink2URL: http://www.analog.com/static/imported-files/data_sheets/OP07D.pdf; ComponentLink3Description: Package Specification; ComponentLink3URL: http://www.analog.com/static/imported-files/packages/PKG_PDF/SOIC_Narrow%20(R)/R_8.pdf; ComponentLink4Description: Reference Circuit; ComponentLink4URL: http://www.analog.com/en/all-operational-amplifiers-op-amps/operational-amplifiers-op-amps/op07d/products/product.html#product-recommendations
footprint ADI-R-8_N (SOIC, 8-Leads, Body 4.9x3.9mm, Pitch 1.27mm, IPC Medium Density)
footprint ADI-R-8_L (SOIC, 8-Leads, Body 4.9x3.9mm, Pitch 1.27mm, IPC High Density)
footprint ADI-R-8_M (SOIC, 8-Leads, Body 4.9x3.9mm, Pitch 1.27mm, IPC Low Density)
pins: 1 NULL (in), 2 -IN (in), 3 +IN (in), 4 -V (power), 5 NC, 6 OUT (out), 7 +V (power), 8 NULL (in)

## OP07DRZ-REEL7
designator U?
Single Channel Low Cost Operational Amplifier, 600 KHz BW, 200 mV/us SR, Industrial, 8-pin SOIC (R-8), Reel; Generic Part Number: OP07D; Manufacturer: Analog Devices; PartNumber: OP07DRZ-REEL7; Amplifiers Per Package: 1; Input Bias Current: 200pA; Input Offset Voltage: 45uV; Iq/Amp: 1.3mA; Small Signal Bandwidth: 600KHz; V Span Max: 36V; V Span Min: 8V; DatasheetVersion: Rev. A; PackageVersion: 060506-A; PackageReference: R-8; PackageDescription: 8-Pin Standard Small Outline Package, Body 3.9 x 4.9 mm, Pitch 1.27 mm; Supplier 1: Digi-Key; Supplier Part Number 1: OP07DRZ-REEL7TR-ND; Supplier 2: Digi-Key; Supplier Part Number 2: OP07DRZ-REEL7CT-ND; Supplier 3: Digi-Key; Supplier Part Number 3: OP07DRZ-REEL7DKR-ND; Supplier 4: Newark; Supplier Part Number 4: 13M2610; Slew Rate: 200mV/us; Mounting Technology: Surface Mount; Code_JEDEC: MS-012-AA; ComponentLink1Description: Manufacturer URL; ComponentLink1URL: http://www.analog.com/en/index.html; ComponentLink2Description: Datasheet; ComponentLink2URL: http://www.analog.com/static/imported-files/data_sheets/OP07D.pdf; ComponentLink3Description: Package Specification; ComponentLink3URL: http://www.analog.com/static/imported-files/packages/PKG_PDF/SOIC_Narrow%20(R)/R_8.pdf; ComponentLink4Description: Reference Circuit; ComponentLink4URL: http://www.analog.com/en/all-operational-amplifiers-op-amps/operational-amplifiers-op-amps/op07d/products/product.html#product-recommendations
footprint ADI-R-8_N (SOIC, 8-Leads, Body 4.9x3.9mm, Pitch 1.27mm, IPC Medium Density)
footprint ADI-R-8_L (SOIC, 8-Leads, Body 4.9x3.9mm, Pitch 1.27mm, IPC High Density)
footprint ADI-R-8_M (SOIC, 8-Leads, Body 4.9x3.9mm, Pitch 1.27mm, IPC Low Density)
pins: 1 NULL (in), 2 -IN (in), 3 +IN (in), 4 -V (power), 5 NC, 6 OUT (out), 7 +V (power), 8 NULL (in)

## OP07EPZ
designator U?
Single Channel Low Noise Operational Amplifer, 600 KHz BW, 300 V/µs SR, Commercial, 8-pin PDIP (N-8), Tube; Generic Part Number: OP07; Manufacturer: Analog Devices; PartNumber: OP07EPZ; # OpAmps per Pkg: 1; Slew Rate: 300mV/us; Small Signal Bandwidth: 600KHz; V Span Max: 44V; V Span Min: 6V; DatasheetVersion: Rev. G; PackageVersion: 070606-A; PackageReference: N-8; PackageDescription: 8-Pin Plastic Dual In-Line Package, Row spacing 7.62 mm, Pitch 2.54 mm; Supplier 1: Digi-Key; Supplier Part Number 1: OP07EPZ-ND; Supplier 2: Farnell; Supplier Part Number 2: 9605452; Supplier 3: Newark; Supplier Part Number 3: 59K8756; Packing: Tube; Mounting Technology: Through Hole; Code_JEDEC: MS-001; ComponentLink1Description: Manufacturer URL; ComponentLink1URL: http://www.analog.com/en/index.html; ComponentLink2Description: Datasheet; ComponentLink2URL: http://www.analog.com/static/imported-files/data_sheets/OP07.pdf; ComponentLink3Description: Package Specification; ComponentLink3URL: http:/www.analog.com/static/imported-files/packages/PKG_PDF/PDIP(N)/N_8.pdf
footprint ADI-N-8 (DIP, 8-Leads, Body 9.59x6.6mm, Pitch 2.54mm)
pins: 1 VOS TRIM (in), 2 -IN (in), 3 +IN (in), 4 -V (power), 5 NC, 6 OUT (out), 7 +V (power), 8 VOS TRIM (in)

## OP27AZ
designator U?
Single Channel Low Noise Operational Amplifier, 8 MHz BW, 2.8 V/us SR, Industrial, 8-pin DIP (Q-8), Tube; Generic Part Number: OP27; Manufacturer: Analog Devices; PartNumber: OP27AZ; Amplifiers Per Package: 1; Input Bias Current: 15nA; Input Offset Voltage: 30uV; Iq/Amp: 5.7mA; Small Signal Bandwidth: 8MHz; V Span Max: 44V; V Span Min: 8V; DatasheetVersion: Rev. F; PackageReference: Q-8; PackageDescription: 8-Pin Ceramic Dual In-Line Package, Row spacing 7.62 mm, Pitch 2.54 mm; Supplier 1: Digi-Key; Supplier Part Number 1: OP27AZ-ND; Supplier 2: Farnell; Supplier Part Number 2: 5058806; Supplier 3: Newark; Supplier Part Number 3: 07C8653; Packing: Tube; Slew Rate: 2.8V/us; Mounting Technology: Through Hole; ComponentLink1Description: Manufacturer URL; ComponentLink1URL: http://www.analog.com/en/index.html; ComponentLink2Description: Datasheet; ComponentLink2URL: http://www.analog.com/static/imported-files/data_sheets/OP27.pdf; ComponentLink3Description: Package Specification; ComponentLink3URL: http://www.analog.com/static/imported-files/packages/3925655241313314758Q_8.pdf
footprint ADI-Q-8 (DIP, 8-Leads, Body 10.29x6.73mm, Pitch 2.54mm)
pins: 1 VOS TRIM (in), 2 -IN (in), 3 +IN (in), 4 -V (power), 5 NC, 6 OUT (out), 7 +V (power), 8 VOS TRIM (in)

## OP27EP
designator U?
Single Channel Low Noise Operational Amplifier, 8 MHz BW, 2.8 V/us SR, Commercial, 8-pin DIP (N-8), Tube; Generic Part Number: OP27; Manufacturer: Analog Devices; PartNumber: OP27EP; Amplifiers Per Package: 1; Input Bias Current: 15nA; Input Offset Voltage: 30uV; Iq/Amp: 5.7mA; Small Signal Bandwidth: 8MHz; V Span Max: 44V; V Span Min: 8V; DatasheetVersion: Rev. F; PackageVersion: 070606-A; PackageReference: N-8; PackageDescription: 8-Pin Plastic Dual In-Line Package, Row spacing 7.62 mm, Pitch 2.54 mm; Supplier 1: Digi-Key; Supplier Part Number 1: OP27EP-ND; Packing: Tube; Slew Rate: 2.8V/us; Mounting Technology: Through Hole; Code_JEDEC: MS-001; ComponentLink1Description: Manufacturer URL; ComponentLink1URL: http://www.analog.com/en/index.html; ComponentLink2Description: Datasheet; ComponentLink2URL: http://www.analog.com/static/imported-files/data_sheets/OP27.pdf; ComponentLink3Description: Package Specification; ComponentLink3URL: http:/www.analog.com/static/imported-files/packages/PKG_PDF/PDIP(N)/N_8.pdf
footprint ADI-N-8 (DIP, 8-Leads, Body 9.59x6.6mm, Pitch 2.54mm)
pins: 1 VOS TRIM (in), 2 -IN (in), 3 +IN (in), 4 V- (power), 5 NC, 6 OUT (out), 7 V+ (power), 8 VOS TRIM (in)

## OP27EPZ
designator U?
Single Channel Low Noise Operational Amplifier, 8 MHz BW, 2.8 V/us SR, Commercial, 8-pin DIP (N-8), Tube; Generic Part Number: OP27; Manufacturer: Analog Devices; PartNumber: OP27EPZ; Amplifiers Per Package: 1; Input Bias Current: 15nA; Input Offset Voltage: 30uV; Iq/Amp: 5.7mA; Small Signal Bandwidth: 8MHz; V Span Max: 44V; V Span Min: 8V; DatasheetVersion: Rev. F; PackageVersion: 070606-A; PackageReference: N-8; PackageDescription: 8-Pin Plastic Dual In-Line Package, Row spacing 7.62 mm, Pitch 2.54 mm; Supplier 1: Digi-Key; Supplier Part Number 1: OP27EPZ-ND; Supplier 2: Farnell; Supplier Part Number 2: 9603603; Supplier 3: Farnell; Supplier Part Number 3: 1523875; Supplier 4: Newark; Supplier Part Number 4: 59K8827; Packing: Tube; Slew Rate: 2.8V/us; Mounting Technology: Through Hole; Code_JEDEC: MS-001; ComponentLink1Description: Manufacturer URL; ComponentLink1URL: http://www.analog.com/en/index.html; ComponentLink2Description: Datasheet; ComponentLink2URL: http://www.analog.com/static/imported-files/data_sheets/OP27.pdf; ComponentLink3Description: Package Specification; ComponentLink3URL: http:/www.analog.com/static/imported-files/packages/PKG_PDF/PDIP(N)/N_8.pdf
footprint ADI-N-8 (DIP, 8-Leads, Body 9.59x6.6mm, Pitch 2.54mm)
pins: 1 VOS TRIM (in), 2 -IN (in), 3 +IN (in), 4 V- (power), 5 NC, 6 OUT (out), 7 V+ (power), 8 VOS TRIM (in)